# Altium footprint library IICLibrary.PcbLib: 15 footprints
Each footprint in its own frame and in the unit in brackets; x right, y up, seen from the top. Pads: shape width x height; smd on the part's side, far side on the other; paste and mask are expansions set on the pad; w line width, h text height; cw(c..) or ccw(c..) is an arc to the next point about the centre after c.
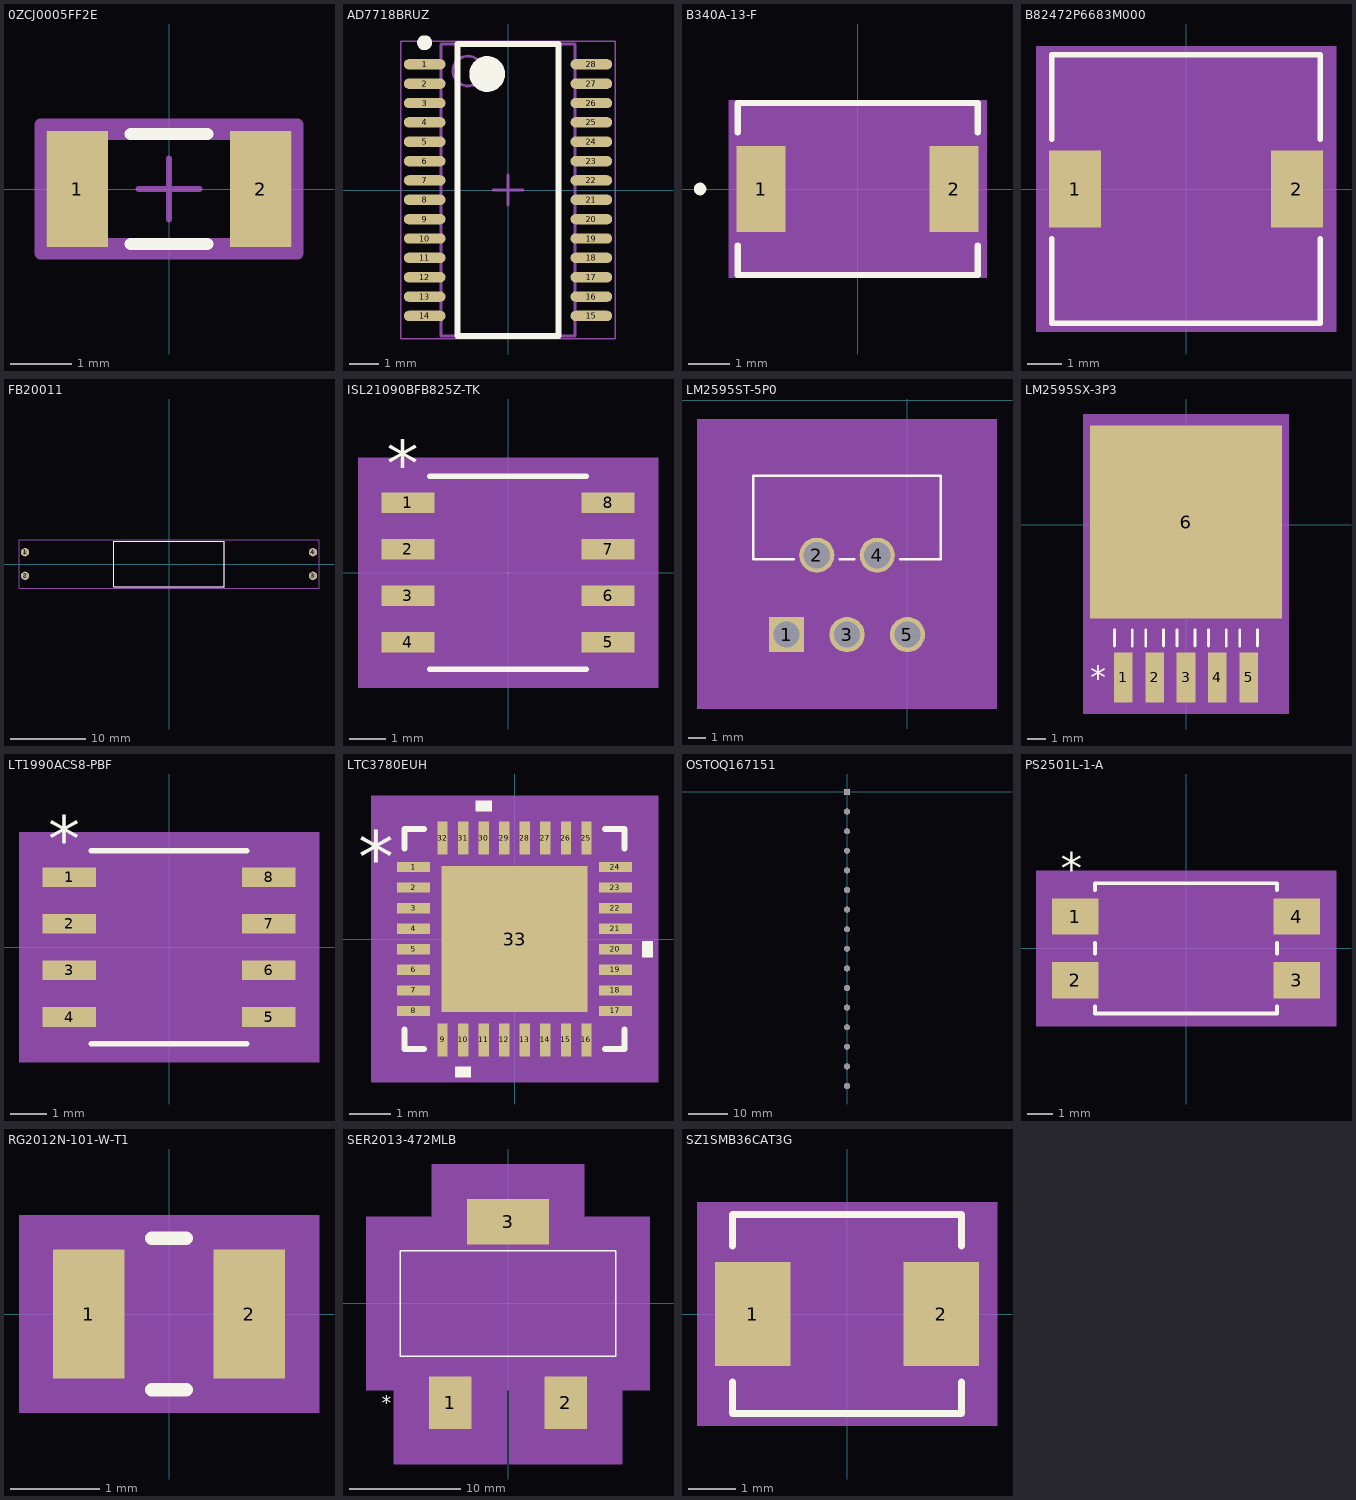
[diagram p0: the footprints below, top view; thin cyan lines are the x and y axes]

## 0ZCJ0005FF2E [mm]
pads (2):
  rect 1x1.9 smd paste+0 mask+0: 1(-1.5,0) 2(1.5,0)
Top Overlay:
  lines w0.2: -0.625,-0.9 0.625,-0.9 ; -0.625,0.9 0.625,0.9
Top 3D Body:
  lines w0.2: -1.75,-0.9 1.75,-0.9 1.75,0.9 -1.75,0.9 -1.75,-0.9
Top Assembly:
  lines w0.2: -2.1,-1.05 2.1,-1.05 2.1,1.05 -2.1,1.05 -2.1,-1.05
  text ".Designator" at 0,0.188 h1
Top Courtyard:
  lines w0.2: -2.1,-1.05 2.1,-1.05 2.1,1.05 -2.1,1.05 -2.1,-1.05
Top Component Center:
  lines w0.1: -0.5,0 0.5,0 ; 0,-0.5 0,0.5
3D body "Fuse_Bel_0ZCJ0005FF2E_eec.STEP": height 0.25, standoff 0, extent -2.1,-1.05 2.1,1.05

## AD7718BRUZ [mm] "TSOP, 28-Leads, Body 9.7x4.4mm, Pitch 0.65mm, IPC High Density"
height 1.2
pads (28):
  oval 1.4x0.35 smd: 1(-2.8,4.225) 2(-2.8,3.575) 3(-2.8,2.925) 4(-2.8,2.275) 5(-2.8,1.625) 6(-2.8,0.975) 7(-2.8,0.325) 8(-2.8,-0.325) 9(-2.8,-0.975) 10(-2.8,-1.625) 11(-2.8,-2.275) 12(-2.8,-2.925) 13(-2.8,-3.575) 14(-2.8,-4.225) 15(2.8,-4.225) 16(2.8,-3.575) 17(2.8,-2.925) 18(2.8,-2.275) 19(2.8,-1.625) 20(2.8,-0.975) 21(2.8,-0.325) 22(2.8,0.325) 23(2.8,0.975) 24(2.8,1.625) 25(2.8,2.275) 26(2.8,2.925) 27(2.8,3.575) 28(2.8,4.225)
Top Overlay:
  circle w0.6: c-0.7,3.9 r0.3
  circle w0.25: c-2.8,4.95 r0.125
  lines w0.2: -1.7,-4.9 1.7,-4.9 1.7,4.9 -1.7,4.9 -1.7,-4.9
Mechanical 13:
  circle w0.1: c-1.35,4 r0.5
  lines w0.1: -2.25,-4.9 2.25,-4.9 2.25,4.9 -2.25,4.9 -2.25,-4.9
Mechanical 15:
  lines w0.05: -3.6,-5 3.6,-5 3.6,5 -3.6,5 -3.6,-5
  lines w0.1: -0.5,0 0.5,0 ; 0,-0.5 0,0.5
3D body: height 1.2, standoff 0.05, extent -2.25,-4.9 2.25,4.9

## B340A-13-F [mil]
pads (2):
  rect 47x82 smd paste+0 mask+0: 1(-92.5,0) 2(92.5,0)
Top Overlay:
  circle w6: c-151,0 r3
  lines w6: -115,-54.1 -115,-82.5 115,-82.5 115,-54.1 ; -115,54.1 -115,82.5 115,82.5 115,54.1
Mechanical 5:
  region: 123.5,-85 -123.5,-85 -123.5,85 123.5,85
Mechanical 13:
  circle w0: c-92.5,0 r3
  lines w1: -110,-38.75 -71.25,-77.5 ; -110,38.75 -71.25,77.5 ; -110,-77.5 110,-77.5 110,77.5 -110,77.5 -110,-77.5 ; -110,-41 -110,41 -110,-41 ; 110,-41 110,41 110,-41
Mechanical 15:
  region: 120,-81.5 -120,-81.5 -120,81.5 120,81.5
  lines w6: -120,-81.5 -120,81.5 120,81.5 120,-81.5 -120,-81.5
3D body: height 10, standoff 0, extent 0,0 10,10

## B82472P6683M000 [mil]
pads (2):
  rect 59x87 smd paste+0 mask+0: 1(-126,0) 2(126,0)
Top Overlay:
  lines w6: -152.5,-56.6 -152.5,-152.5 152.5,-152.5 152.5,-56.6 ; -152.5,56.6 -152.5,152.5 152.5,152.5 152.5,56.6
Mechanical 5:
  region: 170.5,-162.5 -170.5,-162.5 -170.5,162.5 170.5,162.5
Mechanical 13:
  lines w1: -147.5,-147.5 -147.5,147.5 147.5,147.5 147.5,-147.5 -147.5,-147.5
Mechanical 15:
  region: -157.5,-53.5 -165.5,-53.5 -165.5,53.5 -157.5,53.5 -157.5,157.5 157.5,157.5 157.5,53.5 165.5,53.5 165.5,-53.5 157.5,-53.5 157.5,-157.5 -157.5,-157.5
  lines w6: -165.5,-53.5 -157.5,-53.5 -157.5,-157.5 157.5,-157.5 157.5,-53.5 165.5,-53.5 165.5,53.5 157.5,53.5 157.5,157.5 -157.5,157.5 -157.5,53.5 -165.5,53.5 -165.5,-53.5
3D body "IND_EPCOS_B82472P6_EPC.step": height 177.09, standoff -0.12, extent -147.48,-147.6 147.48,147.6

## FB20011 [mm]
pads (4):
  round 1.11 hole 0.71: 1(-19.115,1.575) 2(-19.115,-1.575) 3(19.115,-1.575) 4(19.115,1.575)
Top Overlay:
  lines w0.127: -7.305,-3 -7.305,3 7.305,3 7.305,-3 -7.305,-3
Mechanical 13:
  lines w0.127: -7.305,-3 -7.305,3 7.305,3 7.305,-3 -7.305,-3
Mechanical 15:
  lines w0.05: -19.915,-3.25 19.915,-3.25 19.915,3.25 -19.915,3.25 -19.915,-3.25

## ISL21090BFB825Z-TK [mil]
pads (8):
  rect 57x22 smd paste+0 mask+0: 1(-107.5,75) 2(-107.5,25) 3(-107.5,-25) 4(-107.5,-75) 5(107.5,-75) 6(107.5,-25) 7(107.5,25) 8(107.5,75)
Top Overlay:
  lines w6: -84,-103.5 84,-103.5 ; -84,103.5 84,103.5
  text "*" at -130,92 h50
Mechanical 5:
  region: 161,-123.5 -161,-123.5 -161,123.5 161,123.5
Mechanical 13:
  lines w0: -12,98.5 ccw(c0,98.5) 12,98.5
  lines w1: -122,-85 -79,-85 -79,-65 -122,-65 -122,-85 ; -122,-35 -79,-35 -79,-15 -122,-15 -122,-35 ; -122,15 -79,15 -79,35 -122,35 -122,15 ; -122,65 -79,65 -79,85 -122,85 -122,65 ; -79,-98.5 -79,98.5 79,98.5 79,-98.5 -79,-98.5 ; 79,-85 122,-85 122,-65 79,-65 79,-85 ; 79,-35 122,-35 122,-15 79,-15 79,-35 ; 79,15 122,15 122,35 79,35 79,15 ; 79,65 122,65 122,85 79,85 79,65
  text "*" at -76.5,45.5 h50
Mechanical 15:
  region: -89,-96 -146,-96 -146,96 -89,96 -89,108.5 89,108.5 89,96 146,96 146,-96 89,-96 89,-108.5 -89,-108.5
  lines w6: -146,-96 -89,-96 -89,-108.5 89,-108.5 89,-96 146,-96 146,96 89,96 89,108.5 -89,108.5 -89,96 -146,96 -146,-96
3D body "M8_15_INR.step": height 68.11, standoff 0, extent -122.01,-98.5 122.01,98.5

## LM2595ST-5P0 [mil]
pads (5):
  rect 78x78 hole 58: 1(-268,-519)
  round 78 hole 58: 2(-201,-343) 3(-134,-519) 4(-67,-343) 5(0,-519)
Top Overlay:
  lines w6: -252.32,-352 -341.5,-352 -341.5,-167 73.5,-167 73.5,-352 -15.68,-352 ; -149.68,-352 -118.32,-352
Mechanical 5:
  region: -466.5,-42 198.5,-42 198.5,-683 -466.5,-683
Mechanical 13:
  lines w1: -341.5,-352 73.5,-352 73.5,-167 -341.5,-167 -341.5,-352
Mechanical 15:
  region: 83.5,-157 -351.5,-157 -351.5,-568 83.5,-568
  lines w6: -351.5,-568 -351.5,-157 83.5,-157 83.5,-568 -351.5,-568
3D body "T05D.step": height 1074.02, standoff -64.02, extent -342.5,-546.02 72.5,-170

## LM2595SX-3P3 [mil]
pads (6):
  rect 40x106 smd: 1(-134,-326) 2(-67,-326) 3(0,-326) 4(67,-326) 5(134,-326)
  rect 410x412 smd: 6(0,6)
Top Overlay:
  lines w6: -153,-259 -153,-224 ; -115,-259 -115,-224 ; -86,-259 -86,-224 ; -48,-259 -48,-224 ; -19,-259 -19,-224 ; 19,-259 19,-224 ; 48,-259 48,-224 ; 86,-259 86,-224 ; 115,-259 115,-224 ; 153,-259 153,-224
  text "*" at -205,-351 h50
Mechanical 5:
  region: -220,237 220,237 220,-404 -220,-404
Mechanical 13:
  lines w1: -205,-200 205,-200 205,200 -205,200 -205,-200 ; -153,-365 -153,-200 -115,-200 -115,-365 -153,-365 ; -86,-365 -86,-200 -48,-200 -48,-365 -86,-365 ; -19,-365 -19,-200 19,-200 19,-365 -19,-365 ; 48,-365 48,-200 86,-200 86,-365 48,-365 ; 115,-365 115,-200 153,-200 153,-365 115,-365
  text "*" at -205,-351 h50
Mechanical 15:
  region: 215,-389 -215,-389 -215,222 215,222
  lines w6: -215,-389 -215,222 215,222 215,-389 -215,-389
3D body "TS5B.step": height 189.09, standoff -2.01, extent -205,-322.52 205,155.12

## LT1990ACS8-PBF [mil]
pads (8):
  rect 57.5x21 smd paste+0 mask+0: 1(-107.25,75) 2(-107.25,25) 3(-107.25,-25) 4(-107.25,-75) 5(107.25,-75) 6(107.25,-25) 7(107.25,25) 8(107.25,75)
Top Overlay:
  lines w6: -83.5,-103.5 83.5,-103.5 ; -83.5,103.5 83.5,103.5
  text "*" at -129.75,91 h50
Mechanical 5:
  region: 161,-123.5 -161,-123.5 -161,123.5 161,123.5
Mechanical 13:
  lines w0: -12,98.5 ccw(c0,98.5) 12,98.5
  lines w1: -122,-84.5 -122,-65.5 -78.5,-65.5 -78.5,-84.5 -122,-84.5 ; -122,-34.5 -122,-15.5 -78.5,-15.5 -78.5,-34.5 -122,-34.5 ; -122,15.5 -122,34.5 -78.5,34.5 -78.5,15.5 -122,15.5 ; -122,65.5 -122,84.5 -78.5,84.5 -78.5,65.5 -122,65.5 ; -78.5,-98.5 78.5,-98.5 78.5,98.5 -78.5,98.5 -78.5,-98.5 ; 78.5,-84.5 78.5,-65.5 122,-65.5 122,-84.5 78.5,-84.5 ; 78.5,-34.5 78.5,-15.5 122,-15.5 122,-34.5 78.5,-34.5 ; 78.5,15.5 78.5,34.5 122,34.5 122,15.5 78.5,15.5 ; 78.5,65.5 78.5,84.5 122,84.5 122,65.5 78.5,65.5
  text "*" at -76,45.5 h50
Mechanical 15:
  region: -88.5,-95.5 -146,-95.5 -146,95.5 -88.5,95.5 -88.5,108.5 88.5,108.5 88.5,95.5 146,95.5 146,-95.5 88.5,-95.5 88.5,-108.5 -88.5,-108.5
  lines w6: -146,-95.5 -146,95.5 -88.5,95.5 -88.5,108.5 88.5,108.5 88.5,95.5 146,95.5 146,-95.5 88.5,-95.5 88.5,-108.5 -88.5,-108.5 -88.5,-95.5 -146,-95.5
3D body "SO-8_S_LIT.step": height 69.09, standoff 0, extent -122.01,-98.5 122.01,98.5

## LTC3780EUH [mm]
pads (33):
  rect 0.805x0.249 smd paste+0 mask+0: 1(-2.452,1.75) 2(-2.452,1.25) 3(-2.452,0.75) 4(-2.452,0.25) 5(-2.452,-0.25) 6(-2.452,-0.75) 7(-2.452,-1.25) 8(-2.452,-1.75) 17(2.452,-1.75) 18(2.452,-1.25) 19(2.452,-0.75) 20(2.452,-0.25) 21(2.452,0.25) 22(2.452,0.75) 23(2.452,1.25) 24(2.452,1.75)
  rect 0.249x0.805 smd paste+0 mask+0: 9(-1.75,-2.452) 10(-1.25,-2.452) 11(-0.75,-2.452) 12(-0.25,-2.452) 13(0.25,-2.452) 14(0.75,-2.452) 15(1.25,-2.452) 16(1.75,-2.452) 25(1.75,2.452) 26(1.25,2.452) 27(0.75,2.452) 28(0.25,2.452) 29(-0.25,2.452) 30(-0.75,2.452) 31(-1.25,2.452) 32(-1.75,2.452)
  rect 3.55x3.55 smd paste-1.762 mask+0: 33(0,0)
Top Overlay:
  region: -0.56,3.109 -0.941,3.109 -0.941,3.363 -0.56,3.363
  region: 3.109,-0.059 3.363,-0.059 3.363,-0.44 3.109,-0.44
  region: -1.06,-3.109 -1.441,-3.109 -1.441,-3.363 -1.06,-3.363
  lines w0.152: -2.677,-2.207 -2.677,-2.677 -2.207,-2.677 ; -2.677,2.207 -2.677,2.677 -2.207,2.677 ; 2.207,-2.677 2.677,-2.677 2.677,-2.207 ; 2.207,2.677 2.677,2.677 2.677,2.207
  text "*" at -3.807,1.365 h1.27
Top Paste:
  region: 1.675,-0.1 0.1,-0.1 0.1,-1.675 1.675,-1.675
  region: 1.675,1.675 0.1,1.675 0.1,0.1 1.675,0.1
  region: -0.1,-0.1 -1.675,-0.1 -1.675,-1.675 -0.1,-1.675
  region: -0.1,1.675 -1.675,1.675 -1.675,0.1 -0.1,0.1
Mechanical 5:
  region: 3.49,-3.49 -3.49,-3.49 -3.49,3.49 3.49,3.49
Mechanical 13:
  lines w0.025: -2.55,1.28 -1.28,2.55 ; -2.55,-2.55 -2.55,2.55 2.55,2.55 2.55,-2.55 -2.55,-2.55 ; -2.55,-1.9 -2.55,-1.6 -2.55,-1.9 ; -2.55,-1.4 -2.55,-1.1 -2.55,-1.4 ; -2.55,-0.9 -2.55,-0.6 -2.55,-0.9 ; -2.55,-0.4 -2.55,-0.1 -2.55,-0.4 ; -2.55,0.1 -2.55,0.4 -2.55,0.1 ; -2.55,0.6 -2.55,0.9 -2.55,0.6 ; -2.55,1.1 -2.55,1.4 -2.55,1.1 ; -2.55,1.6 -2.55,1.9 -2.55,1.6 ; -1.9,-2.55 -1.6,-2.55 -1.9,-2.55 ; -1.9,2.55 -1.6,2.55 -1.9,2.55 ; -1.4,-2.55 -1.1,-2.55 -1.4,-2.55 ; -1.4,2.55 -1.1,2.55 -1.4,2.55 ; -0.9,-2.55 -0.6,-2.55 -0.9,-2.55 ; -0.9,2.55 -0.6,2.55 -0.9,2.55 ; -0.4,-2.55 -0.1,-2.55 -0.4,-2.55 ; -0.4,2.55 -0.1,2.55 -0.4,2.55 ; 0.1,-2.55 0.4,-2.55 0.1,-2.55 ; 0.1,2.55 0.4,2.55 0.1,2.55 ; 0.6,-2.55 0.9,-2.55 0.6,-2.55 ; 0.6,2.55 0.9,2.55 0.6,2.55 ; 1.1,-2.55 1.4,-2.55 1.1,-2.55 ; 1.1,2.55 1.4,2.55 1.1,2.55 ; 1.6,-2.55 1.9,-2.55 1.6,-2.55 ; 1.6,2.55 1.9,2.55 1.6,2.55 ; 2.55,-1.9 2.55,-1.6 2.55,-1.9 ; 2.55,-1.4 2.55,-1.1 2.55,-1.4 ; 2.55,-0.9 2.55,-0.6 2.55,-0.9 ; 2.55,-0.4 2.55,-0.1 2.55,-0.4 ; 2.55,0.1 2.55,0.4 2.55,0.1 ; 2.55,0.6 2.55,0.9 2.55,0.6 ; 2.55,1.1 2.55,1.4 2.55,1.1 ; 2.55,1.6 2.55,1.9 2.55,1.6
  text "*" at -2.368,1.365 h1.27
Mechanical 15:
  region: -2.129,-2.804 -2.804,-2.804 -2.804,-2.129 -3.109,-2.129 -3.109,2.129 -2.804,2.129 -2.804,2.804 -2.129,2.804 -2.129,3.109 2.129,3.109 2.129,2.804 2.804,2.804 2.804,2.129 3.109,2.129 3.109,-2.129 2.804,-2.129 2.804,-2.804 2.129,-2.804 2.129,-3.109 -2.129,-3.109
  lines w0.152: -3.109,-2.129 -3.109,2.129 -2.804,2.129 -2.804,2.804 -2.129,2.804 -2.129,3.109 2.129,3.109 2.129,2.804 2.804,2.804 2.804,2.129 3.109,2.129 3.109,-2.129 2.804,-2.129 2.804,-2.804 2.129,-2.804 2.129,-3.109 -2.129,-3.109 -2.129,-2.804 -2.804,-2.804 -2.804,-2.129 -3.109,-2.129
3D body "QFN-32_UH_LIT.step": height 0.8, standoff 0, extent -2.55,-2.55 2.55,2.55

## OSTOQ167151 [mil]
pads (16):
  rect 60x60 hole 59.06 square: 1(0,0)
  round 60 hole 59.06: 2(0,-196.85) 3(0,-393.7) 4(0,-590.55) 5(0,-787.4) 6(0,-984.25) 7(0,-1181.1) 8(0,-1377.95) 9(0,-1574.8) 10(0,-1771.65) 11(0,-1968.5) 12(0,-2165.35) 13(0,-2362.2) 14(0,-2559.06) 15(0,-2755.91) 16(0,-2952.76)

## PS2501L-1-A [mil]
pads (4):
  rect 73x57 smd paste+0 mask+0: 1(-174.5,50) 2(-174.5,-50) 3(174.5,-50) 4(174.5,50)
Top Overlay:
  lines w6: -143,-91.6 -143,-102.5 143,-102.5 143,-91.6 ; -143,-8.4 -143,8.4 ; -143,91.6 -143,102.5 143,102.5 143,91.6 ; 143,-8.4 143,8.4
  text "*" at -197,102 h50
Mechanical 5:
  region: 236,-122.5 -236,-122.5 -236,122.5 236,122.5
Mechanical 13:
  lines w0: -12,97.5 ccw(c0,97.5) 12,97.5
  lines w1: -197,-77.5 -197,-22.5 -138,-22.5 -138,-77.5 -197,-77.5 ; -197,22.5 -197,77.5 -138,77.5 -138,22.5 -197,22.5 ; -138,-97.5 138,-97.5 138,97.5 -138,97.5 -138,-97.5 ; 138,-77.5 138,-22.5 197,-22.5 197,-77.5 138,-77.5 ; 138,22.5 138,77.5 197,77.5 197,22.5 138,22.5
  text "*" at -135.5,44.5 h50
Mechanical 15:
  region: -148,-88.5 -221,-88.5 -221,88.5 -148,88.5 -148,107.5 148,107.5 148,88.5 221,88.5 221,-88.5 148,-88.5 148,-107.5 -148,-107.5
  lines w6: -221,-88.5 -221,88.5 -148,88.5 -148,107.5 148,107.5 148,88.5 221,88.5 221,-88.5 148,-88.5 148,-107.5 -148,-107.5 -148,-88.5 -221,-88.5
3D body "SOIC_1L-1-A.step": height 150.12, standoff 0, extent -197.01,-97.48 197.01,97.48

## RG2012N-101-W-T1 [mm]
pads (2):
  rect 0.803x1.45 smd paste+0 mask+0: 1(-0.902,0) 2(0.902,0)
Top Overlay:
  lines w0.152: -0.192,-0.852 0.192,-0.852 ; -0.192,0.852 0.192,0.852
Mechanical 5:
  region: 1.684,-1.106 -1.684,-1.106 -1.684,1.106 1.684,1.106
Mechanical 13:
  lines w0.025: -1.1,-0.725 -1.1,0.725 ; -1.1,-0.725 1.1,-0.725 ; -1.1,-0.725 -0.5,-0.725 -0.5,0.725 -1.1,0.725 ; -1.1,-0.725 -1.1,0.725 ; -1.1,0.725 1.1,0.725 ; 1.1,-0.725 1.1,0.725 ; 1.1,-0.725 1.1,0.725 ; 1.1,-0.725 0.5,-0.725 0.5,0.725 1.1,0.725
Mechanical 15:
  region: 1.557,-0.979 -1.557,-0.979 -1.557,0.979 1.557,0.979
  lines w0.152: -1.557,-0.979 1.557,-0.979 1.557,0.979 -1.557,0.979 -1.557,-0.979
3D body "RES_1220_SUS.step": height 0.7, standoff 0, extent -1.1,-0.725 1.1,0.725

## SER2013-472MLB [mil]
pads (3):
  rect 150x185 smd paste+0 mask+0: 1(-205,-352.5) 2(205,-352.5)
  rect 290x160 smd paste+0 mask+0: 3(0,290)
Top Overlay:
  lines w6: -382.5,-187.5 382.5,-187.5 382.5,187.5 -382.5,187.5 -382.5,-187.5
  text "*" at -447.5,-377.5 h50
Mechanical 5:
  region: 405,-307.5 502.5,-307.5 502.5,307.5 270,307.5 270,495 -270,495 -270,307.5 -502.5,307.5 -502.5,-307.5 -405,-307.5 -405,-570 -5,-570 -5,-307.5 5,-307.5 5,-570 405,-570
Mechanical 13:
  lines w1: -377.5,-182.5 377.5,-182.5 377.5,182.5 -377.5,182.5 -377.5,-182.5
  text "*" at -340,-377.5 h50
Mechanical 15:
  region: 290,-192.5 387.5,-192.5 387.5,192.5 155,192.5 155,380 -155,380 -155,192.5 -387.5,192.5 -387.5,-192.5 -290,-192.5 -290,-455 -120,-455 -120,-192.5 120,-192.5 120,-455 290,-455
  lines w6: -387.5,-192.5 -387.5,192.5 -155,192.5 -155,380 155,380 155,192.5 387.5,192.5 387.5,-192.5 290,-192.5 290,-455 120,-455 120,-192.5 -120,-192.5 -120,-455 -290,-455 -290,-192.5 -387.5,-192.5
3D body: height 10, standoff 0, extent 0,0 10,10

## SZ1SMB36CAT3G [mil]
pads (2):
  rect 63x87 smd paste+0 mask+0: 1(-78.5,0) 2(78.5,0)
Top Overlay:
  lines w6: -95.5,-56.6 -95.5,-83 95.5,-83 95.5,-56.6 ; -95.5,56.6 -95.5,83 95.5,83 95.5,56.6
Mechanical 5:
  region: 125,-93 -125,-93 -125,93 125,93
Mechanical 13:
  lines w1: -90.5,-78 90.5,-78 90.5,78 -90.5,78 -90.5,-78
Mechanical 15:
  region: -100.5,-53.5 -120,-53.5 -120,53.5 -100.5,53.5 -100.5,88 100.5,88 100.5,53.5 120,53.5 120,-53.5 100.5,-53.5 100.5,-88 -100.5,-88
  lines w6: -120,-53.5 -120,53.5 -100.5,53.5 -100.5,88 100.5,88 100.5,53.5 120,53.5 120,-53.5 100.5,-53.5 100.5,-88 -100.5,-88 -100.5,-53.5 -120,-53.5
3D body "SMB-2_4P60X3P95_ONS.step": height 95.12, standoff 0, extent -110,-77.99 110,77.99